# Altium schematic symbol library pyptec-Schlib_jp.SchLib: 316 symbols (part 3 of 7)
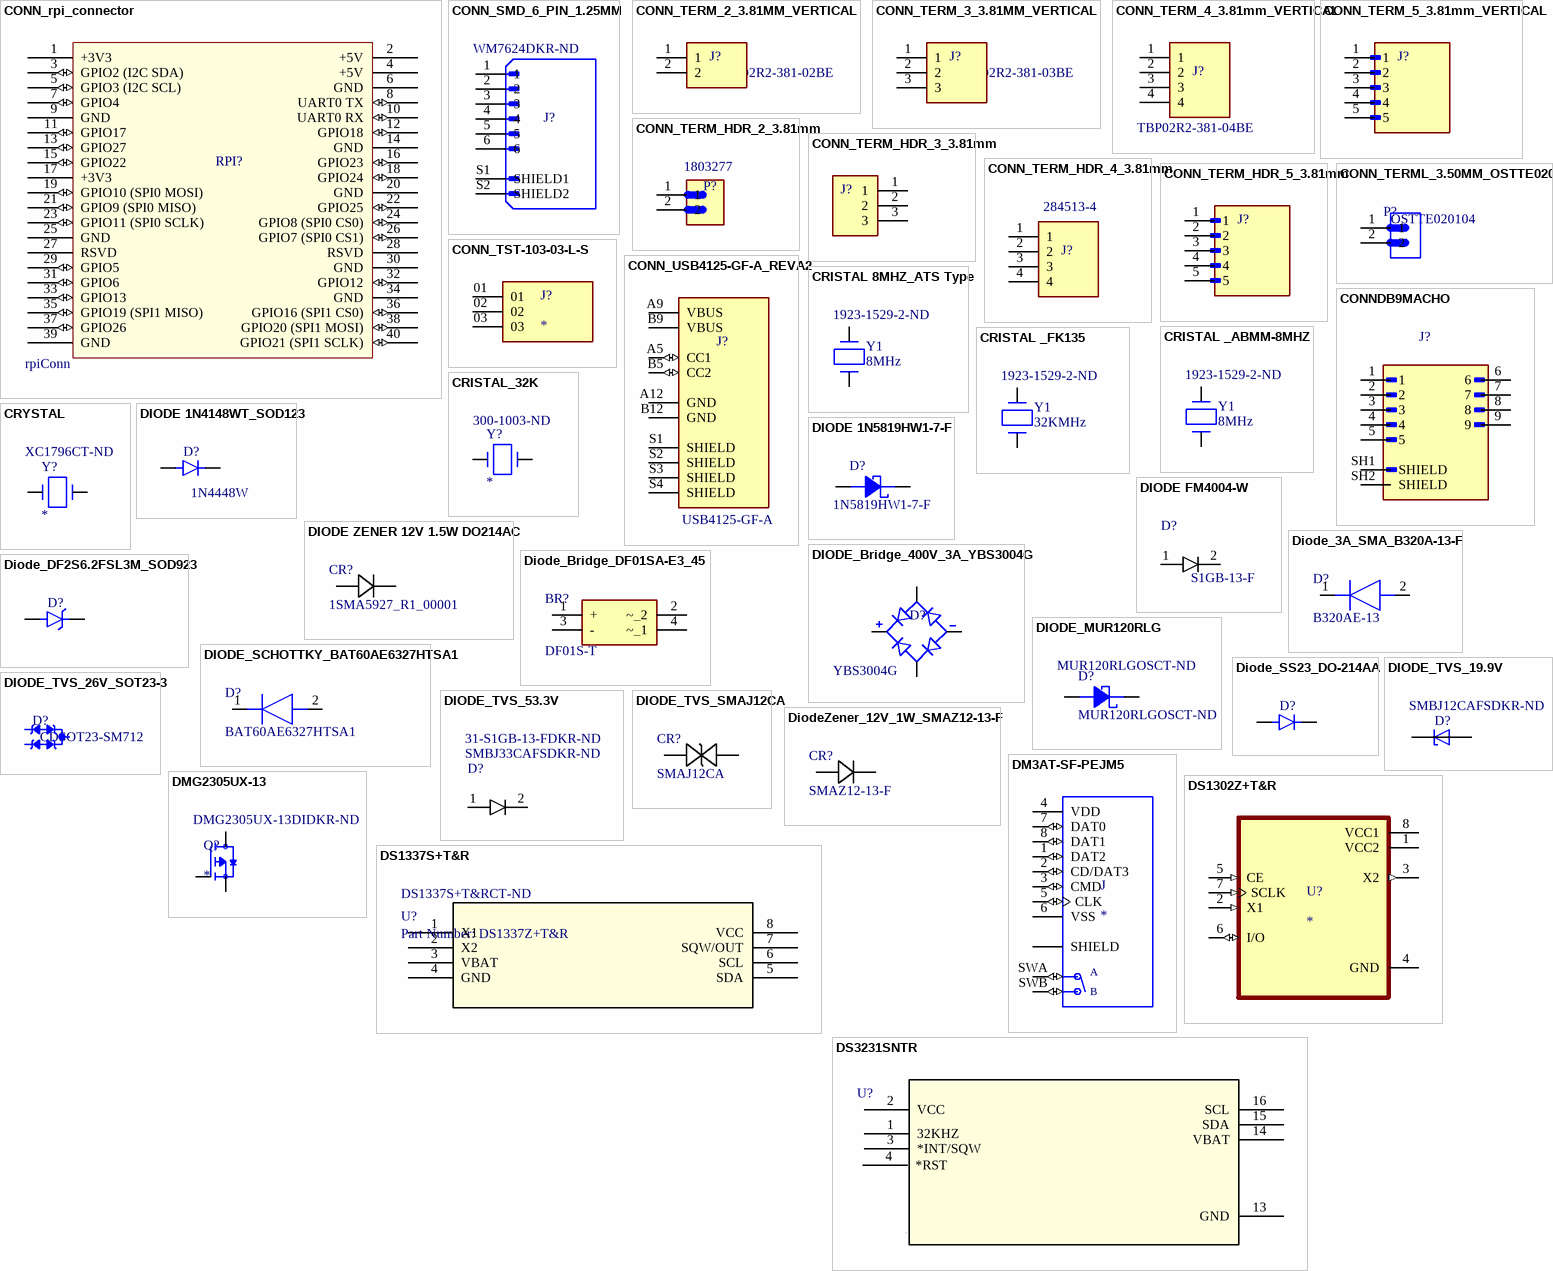
[diagram p12: symbols CONN_rpi_connector to DS3231SNTR]

## DIODE_TVS_53.3V
designator D?, comment Supplier Part Number 2: 31-S1GB-13-FDKR-ND  (hidden comment: SMBJ33CAFSDKR-ND)
53.3V Abrazadera 11.3A Ipp TVS - Diodos Montaje en superficie DO-214AA (SMB); Manufacturer: ON Semiconductor / Fairchild; Digi_Key_Part_Number: SMBJ33CAFSCT-ND; MF: ON Semiconductor; MP: 1N4007; Forward Voltage: 1.1V; Polarity: Standard; Peak Non-Repetitive Surge Current: 30A; Element Configuration: Single; Voltage Rating (DC): 1kV; Current Rating: 1A; Capacitance: 15pF; Peak Reverse Current: 5uA; Power Dissipation: 3W; Operating Supply Voltage: 33V; Breakdown Voltage: 36.7V; Number of Channels: 1; Peak Pulse Power: 600W; Price: None; Package: DO-41 Good-Ark; Availability: Unavailable; SnapEDA_Link: https://www.snapeda.com/parts/1N4007/ON%20Semiconductor/view-part/?ref=snap; Value: *; Manufacturer Part Number: 1N4007; Mount: Through Hole; Number of Pins: 2; Weight: 0.245g; Contact Plating: Tin,Matte; Min Operating Temperature: -65°C; Max Operating Temperature: 175°C; Packaging: Tape and Reel; Output Current: 1A; Max Surge Current: 30A; Forward Current: 1A; Max Repetitive Reverse Voltage (Vrrm): 1kV; Max Forward Surge Current (Ifsm): 30A; Package Quantity: 1000; Reverse Voltage: 1kV; Average Rectified Current: 1A; Max Reverse Voltage (DC): 1kV; Diameter: 2.72mm; Length: 5.2mm; Height: 5.2mm; Width: 2.72mm; Radiation Hardening: No; REACH SVHC: No SVHC; Lead Free: Lead Free; Supplier 1: Digi-Key; Stock 1: 77516; Pricing 1: 1=0.4, 10=0.344, 25=0.3208, 100=0.2384, 250=0.22648, 500=0.18614, 1000=0.15129 (USD); Clamping Voltage: 53.3V; Power Rating: 600W; Supplier 2: Digi-Key; ComponentLink1Description: TVS DIODE 33VWM 53.3VC DO214AA; ComponentLink1URL: https://www.digikey.com/es/products/detail/taiwan-semiconductor-corporation/SMBJ33CA/965472?s=N4IgTCBcDaIMoFkBCApAzGgwgQQGJwBEBpAJQFoA5AkAXQF8g; Link: https://www.digikey.com/es/products/detail/taiwan-semiconductor-corporation/SMBJ33CA/965472?s=N4IgTCBcDaIMoFkBCApAzGgwgQQGJwBEBpAJQFoA5AkAXQF8g; Supplier Part Number 1: SMBJ33CAFSDKR-ND
footprint SM/_SMB DIODE
pins: 1, 2

## DIODE_TVS_SMAJ12CA
designator CR?, comment SMAJ12CA
19.9V Clamp 20.1A Ipp Tvs Diode Surface Mount DO-214AC (SMA); Digi_Key_Part_Number: SMAJ12CALFCT-ND; ComponentLink1Description: TVS DIODE 12VWM 19.9VC DO214AC; ComponentLink1URL: https://www.digikey.com/en/products/detail/littelfuse-inc/SMAJ12CA/762271; Link: https://www.digikey.com/en/products/detail/littelfuse-inc/SMAJ12CA/762271; Price: 0,35; LCSC Part: C78399; Mouser Part: 576-SMAJ12CA; Price JLCPCB: 0,04; Value: SMAJ12CA
footprint SMASeries_LTF-L
pins: 1, 2

## DiodeZener_12V_1W_SMAZ12-13-F
designator CR?, comment SMAZ12-13-F
Diodo - Zener 12 V 1 W ±5% Montaje en superficie SMA; Digi_Key_Part_Number: SMAZ12-FDICT-ND; ComponentLink1Description: DIODE ZENER 12V 1W SMA; ComponentLink1URL: https://www.digikey.com/es/products/detail/diodes-incorporated/SMAZ12-13-F/725035; Link: https://www.digikey.com/es/products/detail/diodes-incorporated/SMAZ12-13-F/725035; Price: 0,26; LCSC Part: C110523; Price JLCPCB: 0,10; Mouser Part: 621-SMAZ12-F; Value: SMAZ12-13-F
footprint SMA_DIO-M
pins: 1, 2

## DM3AT-SF-PEJM5
designator J
10ï¼ˆ8 + 2ï¼‰ä½ç½®å¡è¿žæŽ¥å™¨å®‰å…¨æ•°å­—-microSDâ„¢è¡¨é¢å®‰è£…ï¼Œç›´è§’é‡‘; MF: Hirose; MP: DM3AT-SF-PEJM5; Price: None; SnapEDA_Link: https://www.snapeda.com/parts/DM3AT-SF-PEJM5/Hirose%20Electric%20Co%20Ltd/view-part/1223877/?ref=snap; Availability: Unavailable; Package: None; Value: *
footprint HRS_DM3AT-SF-PEJM5
pins: 1 DAT2 (io), 2 CD/DAT3 (io), 3 CMD (io), 4 VDD (power), 5 CLK (io), 6 VSS (power), 7 DAT0 (io), 8 DAT1 (io), P1 SHIELD, P2 SHIELD, P3 SHIELD, P4 SHIELD, SWA A (io), SWB B (io)

## DMG2305UX-13
designator Q?  Supplier Part Number 1: DMG2305UX-13DIDKR-ND
P-Channel 20V 4.2A _Ta_ 1.4W _Ta_ Surface Mount SOT-23; MP: DMG2305UX-13; MF: Diodes Inc.; Package: SOT-23-3 Diodes Inc.; Price: None; Availability: Unavailable; Value: *; SnapEDA_Link: https://www.snapeda.com/parts/DMG2305UX-13/Diodes%20Inc./view-part/100092/?ref=snap; Supplier 1: Digi-Key
footprint SOT91P240X110-3N
pins: 1 G, 2 S, 3 D

## DS1302Z+T&R
designator U?
Real Time Clock _RTC_ IC Clock/Calendar 31B 3-Wire Serial 8-SOIC _0.154, 3.90mm Width_; MF: Maxim Integrated; Value: DS1302Z+T&R; Package: SOIC-8 Maxim Integrated; Availability: Unavailable; MP: DS1302Z+T&R; SnapEDA_Link: https://www.snapeda.com/parts/DS1302Z/Maxim%20Integrated/view-part/2748183/?ref=snap; Price: None; ComponentLink1Description: DS1302Z+T&R; ComponentLink1URL: https://www.digikey.com/en/products/detail/analog-devices-inc-maxim-integrated/DS1302Z-T-R/1017846; Link: https://www.digikey.com/en/products/detail/analog-devices-inc-maxim-integrated/DS1302Z-T-R/1017846; Digi-Key_Part_Number: DS1302Z+CT-ND
footprint SOIC127P600X175-8N
pins: 1 VCC2 (power), 2 X1 (in), 3 X2 (out), 4 GND (power), 5 CE (in), 6 I/O (io), 7 SCLK (in), 8 VCC1 (power)

## DS1337S+T&R
designator U?, comment Part Number: DS1337Z+T&R  Supplier Part Number 1: DS1337S+T&RCT-ND
Relojes de tiempo real (RTC) IC Reloj/calendario - I²C, 2 conductores en serie 8-SOIC (ancho 0.154", 3.90mm; Manufacturer_Part_Number: DS1307Z+T&R; Manufacturer: Maxim Dallas; Vendor: Maxim Integrated Products; Built_By: EMA_UL_Team; Max Supply Voltage: 5.5V; Min Supply Voltage: 4.5V; Memory Size: 56B; Time Format: HH:MM:SS; Copyright: Copyright (C) 2018 Accelerated Designs. All rights reserved; RefDes: RefDes; Type: DEV; Value: Value; Manufacturer Part Number: DS1307Z+T&R; Mount: Surface Mount; Case/Package: SOIC; Number of Pins: 8; Min Operating Temperature: 0°C; Max Operating Temperature: 70°C; Packaging: Tape and Reel; Length: 5mm; Height: 1.5mm; Width: 4mm; Lead Free: Lead Free; Supplier 1: Digi-Key
footprint 21-0041B_8-M
pins: 1 X1, 2 X2, 3 VBAT (power), 4 GND (power), 5 SDA, 6 SCL, 7 SQW/OUT, 8 VCC (power)

## DS3231SNTR
designator U?, comment DS3231SN#T&R  (value not drawn)
Real Time Clock (RTC) IC Clock/Calendar I2C, 2-Wire Serial 16-SOIC (0.295", 7.50mm Width); Digi_Key_Part_Number: DS3231SN#T&RCT-ND; Link: https://www.digikey.com/en/products/detail/analog-devices-inc-maxim-integrated/DS3231SN-T-R/1197577; Value: DS3231SN#T&R; ComponentLink1Description: IC RTC CLK/CALENDAR I2C 16SOIC; ComponentLink1URL: https://www.digikey.com/en/products/detail/analog-devices-inc-maxim-integrated/DS3231SN-T-R/1197577; Price: 12,88; LCSC Part: C9866; Mouser Part: 700-DS3231SN#T&R-; Price JLCPCB: 3,15
footprint 21-0042B_16_MXM-L
pins: 1 32KHZ, 2 VCC (power), 3 *INT/SQW, 4 *RST, 5 NC, 6 NC, 7 NC, 8 NC, 9 NC, 10 NC, 11 NC, 12 NC, 13 GND (power), 14 VBAT (power), 15 SDA, 16 SCL

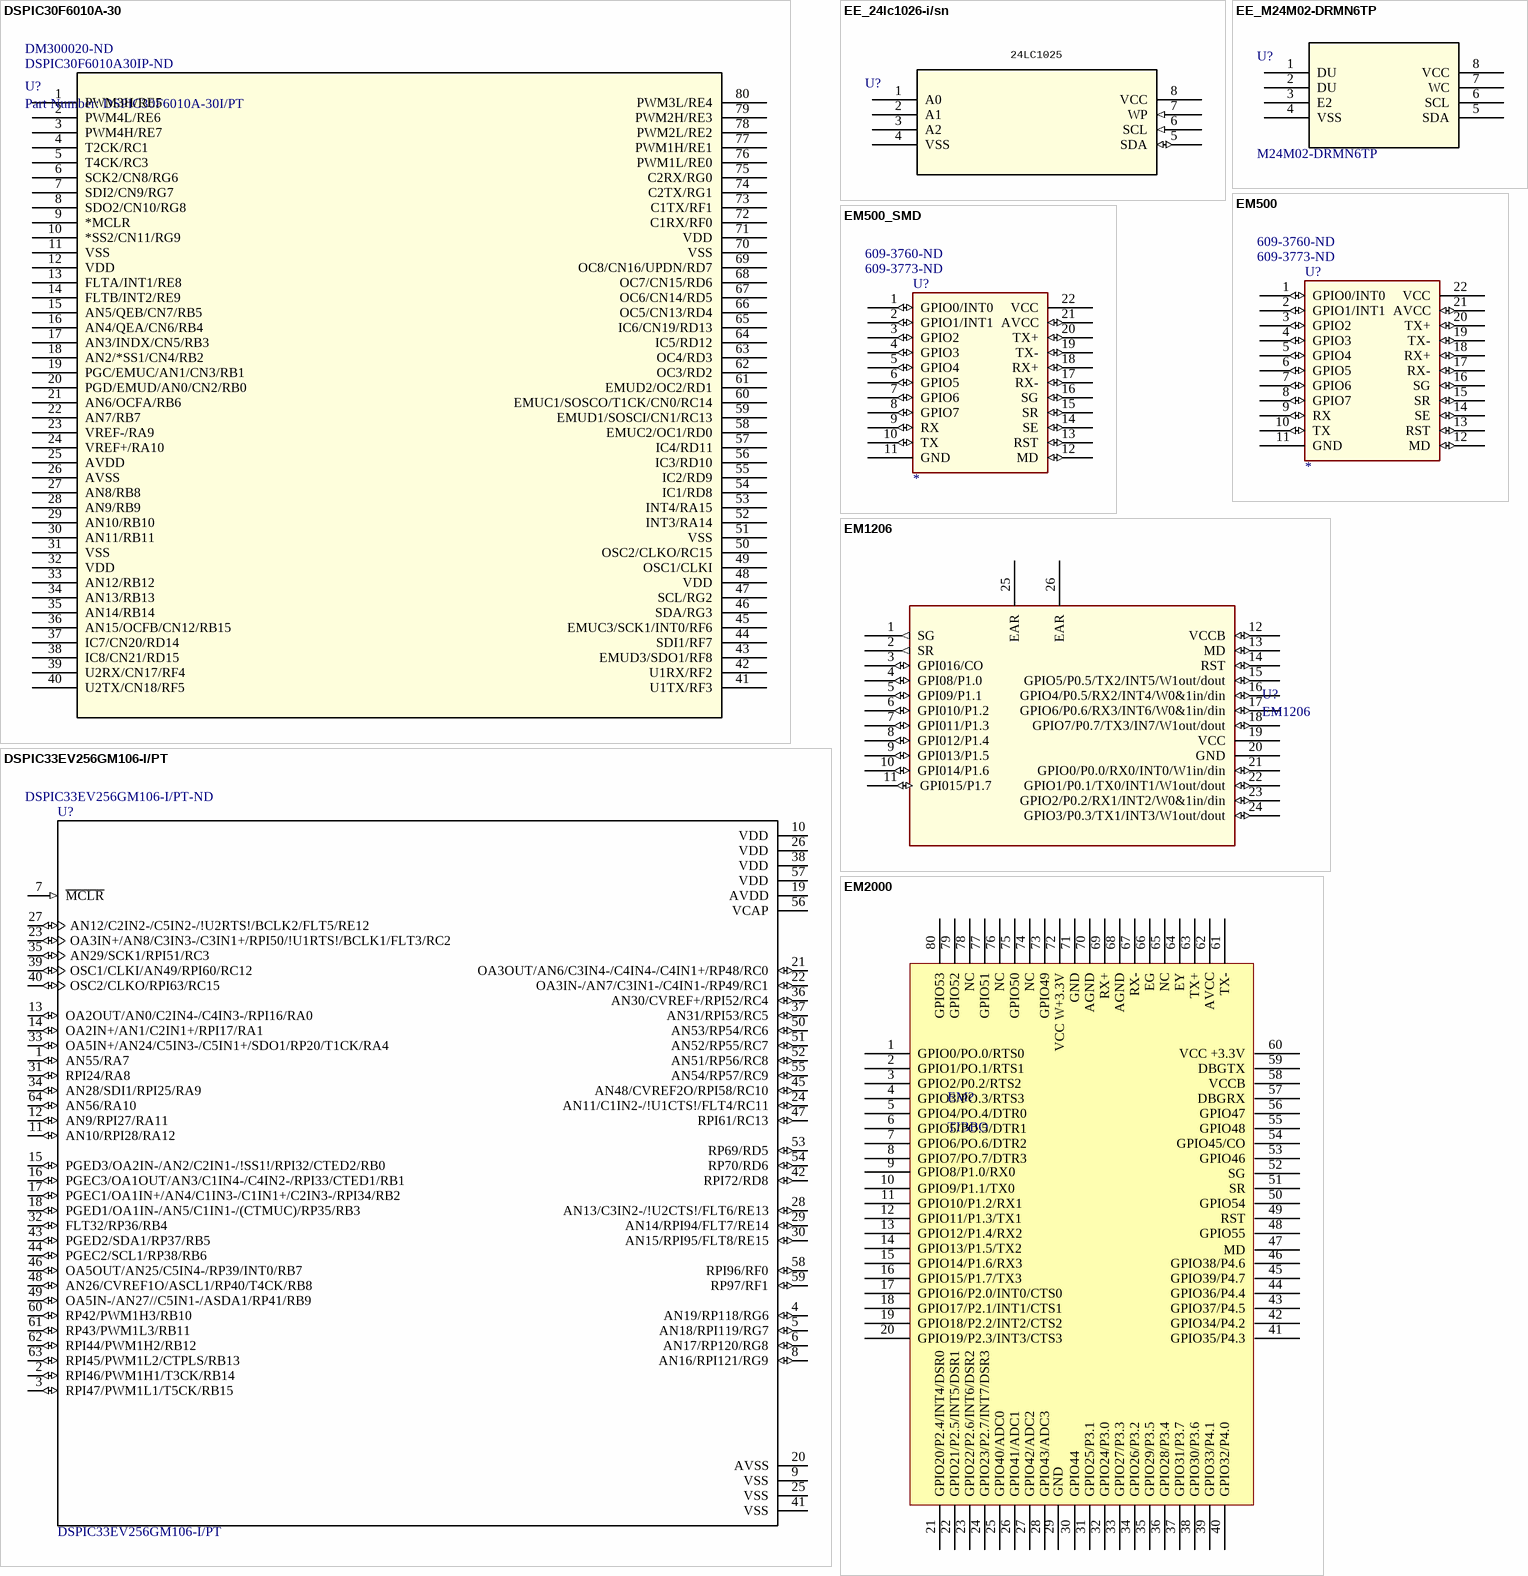
[diagram p3: symbols DSPIC30F6010A-30 to EM2000]

## DSPIC30F6010A-30
designator U?, comment Part Number: DSPIC30F6010A-30I/PT  Supplier Part Number 1: DSPIC30F6010A30IP-ND  Supplier Part Number 2: DM300020-ND
Microcontrolador IC dsPIC dsPIC™ 30F 16 bits 30 MIPS Memoria flash 144KB (48K x 24) 80-TQFP (12x12); Vendor: Microchip; Built_By: EMA_Jessica; Interface: I2C,SPI,CAN,UART,USART; Data Bus Width: 16b; Number of Bits: 16; RAM Size: 8KB; Number of I/Os: 68; Number of Timers/Counters: 5; Frequency: 30MHz; Max Supply Voltage: 5.5V; Min Supply Voltage: 4.5V; Number of I2C Channels: 1; Number of SPI Channels: 2; Number of PWM Channels: 8; Oscillator Type: Internal; Watchdog Timer: Yes; Nominal Supply Current: 84mA; Peripherals: PWM,I2C,Brown-out Detect/Reset,POR,WDT,LVD; Operating Supply Voltage: 9V; Manufacturer_Part_Number: DSPIC30F6010A-30I/PT; Copyright: Copyright (C) 2018 Accelerated Designs. All rights reserved; RefDes: RefDes; Type: DEV; Value: Value; Supplier 1: Digi-Key; Manufacturer: Microchip; Manufacturer Part Number: DSPIC30F6010A-30I/PT; Stock 1: 1454; Pricing 1: 1=10.19, 25=9.26 (USD); Mount: Surface Mount; Case/Package: TQFP; Number of Pins: 80; Min Operating Temperature: -40°C; Max Operating Temperature: 85°C; Package Quantity: 119; Core Architecture: dsPIC; Packaging: Tray; Number of ADC Channels: 16; Number of UART Channels: 2; Density: 144KB; Number of Programmable I/O: 68; Termination: SMD/SMT; Memory Type: FLASH; Number of A/D Converters: 1; Max Frequency: 30MHz; Address Bus Width: 16b; Memory Size: 144KB; Length: 0.393inch; Height: 0.041inch; Width: 0.394inch; Radiation Hardening: No; REACH SVHC: No SVHC; Lead Free: Lead Free; ComponentLink1URL: http://ww1.microchip.com/downloads/jp/DeviceDoc/jp025856.pdf?src-supplier=Avnet; ComponentLink1Description: http://ww1.microchip.com/downloads/jp/DeviceDoc/jp025856.pdf?src-supplier=Avnet; ComponentLink2URL: http://www.farnell.com/datasheets/1669383.pdf?src-supplier=Element14; ComponentLink2Description: http://www.farnell.com/datasheets/1669383.pdf?src-supplier=Element14; ComponentLink3URL: https://www.verical.com/server-webapp/html/getDatasheet?partID=426339&src-supplier=Verical; ComponentLink3Description: https://www.verical.com/server-webapp/html/getDatasheet?partID=426339&src-supplier=Verical; ComponentLink4URL: http://www.microchip.com/mymicrochip/filehandler.aspx?ddocname=en540967&src-supplier=Digi-Key; ComponentLink4Description: http://www.microchip.com/mymicrochip/filehandler.aspx?ddocname=en540967&src-supplier=Digi-Key; ComponentLink5URL: https://www.distrelec.biz/Web/Downloads/_t/ds/dsPIC30F60XX_eng_tds.pdf?mime=application%2Fpdf&src-supplier=Distrelec; ComponentLink5Description: https://www.distrelec.biz/Web/Downloads/_t/ds/dsPIC30F60XX_eng_tds.pdf?mime=application%2Fpdf&src-supplier=Distrelec; ComponentLink6URL: http://www.produktinfo.conrad.com/datenblaetter/650000-674999/651291-da-01-en-IC_DSC_DSPIC30F6010A_30I_PT_TQFP_80_MCP.pdf?src-supplier=Conrad; ComponentLink6Description: http://www.produktinfo.conrad.com/datenblaetter/650000-674999/651291-da-01-en-IC_DSC_DSPIC30F6010A_30I_PT_TQFP_80_MCP.pdf?src-supplier=Conrad; ComponentLink7URL: http://datasheet.iiic.cc/microchip_technology/DSPIC30F6010A-30I_PT.pdf?src-supplier=IIIC; ComponentLink7Description: http://datasheet.iiic.cc/microchip_technology/DSPIC30F6010A-30I_PT.pdf?src-supplier=IIIC; Supplier 2: Digi-Key; Stock 2: 0; Evaluation Kit: Yes; ComponentLink8URL: http://www.farnell.com/datasheets/64080.pdf?src-supplier=Element14; ComponentLink8Description: http://www.farnell.com/datasheets/64080.pdf?src-supplier=Element14; ComponentLink9URL: http://ww1.microchip.com/downloads/en/DeviceDoc/01033B%2041.pdf?src-supplier=Future+Electronics; ComponentLink9Description: http://ww1.microchip.com/downloads/en/DeviceDoc/01033B%2041.pdf?src-supplier=Future+Electronics; ComponentLink10URL: http://components.arrow.com/part/dataview/0323_00271934?src-supplier=Arrow+Europe; ComponentLink10Description: http://components.arrow.com/part/dataview/0323_00271934?src-supplier=Arrow+Europe; ComponentLink11URL: http://ww1.microchip.com/downloads/en/DeviceDoc/70098A.pdf?src-supplier=Digi-Key; ComponentLink11Description: http://ww1.microchip.com/downloads/en/DeviceDoc/70098A.pdf?src-supplier=Digi-Key
footprint TQFP80_12x12MC-M
pins: 1 PWM3H/RE5, 2 PWM4L/RE6, 3 PWM4H/RE7, 4 T2CK/RC1, 5 T4CK/RC3, 6 SCK2/CN8/RG6, 7 SDI2/CN9/RG7, 8 SDO2/CN10/RG8, 9 *MCLR, 10 *SS2/CN11/RG9, 11 VSS, 12 VDD, 13 FLTA/INT1/RE8, 14 FLTB/INT2/RE9, 15 AN5/QEB/CN7/RB5, 16 AN4/QEA/CN6/RB4, 17 AN3/INDX/CN5/RB3, 18 AN2/*SS1/CN4/RB2, 19 PGC/EMUC/AN1/CN3/RB1, 20 PGD/EMUD/AN0/CN2/RB0, 21 AN6/OCFA/RB6, 22 AN7/RB7, 23 VREF-/RA9, 24 VREF+/RA10, 25 AVDD, 26 AVSS, 27 AN8/RB8, 28 AN9/RB9, 29 AN10/RB10, 30 AN11/RB11, 31 VSS, 32 VDD, 33 AN12/RB12, 34 AN13/RB13, 35 AN14/RB14, 36 AN15/OCFB/CN12/RB15, 37 IC7/CN20/RD14, 38 IC8/CN21/RD15, 39 U2RX/CN17/RF4, 40 U2TX/CN18/RF5, 41 U1TX/RF3, 42 U1RX/RF2, 43 EMUD3/SDO1/RF8, 44 SDI1/RF7, 45 EMUC3/SCK1/INT0/RF6, 46 SDA/RG3, 47 SCL/RG2, 48 VDD, 49 OSC1/CLKI, 50 OSC2/CLKO/RC15, 51 VSS, 52 INT3/RA14, 53 INT4/RA15, 54 IC1/RD8, 55 IC2/RD9, 56 IC3/RD10, 57 IC4/RD11, 58 EMUC2/OC1/RD0, 59 EMUD1/SOSCI/CN1/RC13, 60 EMUC1/SOSCO/T1CK/CN0/RC14, 61 EMUD2/OC2/RD1, 62 OC3/RD2, 63 OC4/RD3, 64 IC5/RD12, 65 IC6/CN19/RD13, 66 OC5/CN13/RD4, 67 OC6/CN14/RD5, 68 OC7/CN15/RD6, 69 OC8/CN16/UPDN/RD7, 70 VSS, 71 VDD, 72 C1RX/RF0, 73 C1TX/RF1, 74 C2TX/RG1, 75 C2RX/RG0, 76 PWM1L/RE0, 77 PWM1H/RE1, 78 PWM2L/RE2, 79 PWM2H/RE3, 80 PWM3L/RE4

## DSPIC33EV256GM106-I/PT
designator U?  Supplier Part Number 1: DSPIC33EV256GM106-I/PT-ND
dsPIC33EV Series 16 kB RAM 256 kB Flash 16-Bit Digital Signal Controller-TQFP-64; MF: Microchip; RAM Size: 16KB; Min Supply Voltage: 4.5V; Max Supply Voltage: 5.5V; Density: 256KB; Number of PWM Channels: 8; Interface: I2C,SPI,CAN,IrDA,UART,USART,LIN; Number of I/Os: 53; Oscillator Type: Internal; Number of I2C Channels: 1; Number of SPI Channels: 2; Number of Timers/Counters: 9; Data Bus Width: 16b; Number of ADC Channels: 36; Operating Supply Voltage: 5V; Max Frequency: 7.37MHz; Peripherals: Brown-out Detect/Reset,POR,PWM,WDT,DMA; Core Architecture: dsPIC; MP: DSPIC33EV256GM106-I/PT; Digi-Key_Part_Number: DSPIC33EV256GM106-I/PT-ND; Package: TQFP-64 Microchip; SnapEDA_Link: https://www.snapeda.com/parts/DSPIC33EV256GM106-I/PT/Microchip/view-part/225841/?ref=snap; Digi-Key_Purchase_URL: https://www.digikey.com/product-detail/en/microchip-technology/DSPIC33EV256GM106-I-PT/DSPIC33EV256GM106-I-PT-ND/5032091?utm_source=snapeda&utm_medium=aggregator&utm_campaign=symbol; Value: *; Supplier 1: Digi-Key; Manufacturer: Microchip; Manufacturer Part Number: DSPIC33EV256GM106-I/PT; Stock 1: 586; Pricing 1: 1=4.14, 25=3.8 (USD); Mount: Surface Mount; Case/Package: TQFP; Number of Pins: 64; Weight: 0.01272oz; Min Operating Temperature: -40°C; Max Operating Temperature: 85°C; Packaging: Tray; Memory Type: FLASH; Memory Size: 256KB; Package Quantity: 160; Number of UART Channels: 2; Length: 10mm; Height: 1.05mm; Width: 10mm; REACH SVHC: No SVHC; Lead Free: Lead Free; ComponentLink1URL: http://www.farnell.com/datasheets/1866826.pdf?src-supplier=Element14; ComponentLink1Description: http://www.farnell.com/datasheets/1866826.pdf?src-supplier=Element14
footprint *QFP50P1200X1200X120-64N
pins: 1 AN55/RA7 (io), 2 RPI46/PWM1H1/T3CK/RB14 (io), 3 RPI47/PWM1L1/T5CK/RB15 (io), 4 AN19/RP118/RG6 (io), 5 AN18/RPI119/RG7 (io), 6 AN17/RP120/RG8 (io), 7 ~{MCLR} (in), 8 AN16/RPI121/RG9 (io), 9 VSS (power), 10 VDD (power), 11 AN10/RPI28/RA12 (io), 12 AN9/RPI27/RA11 (io), 13 OA2OUT/AN0/C2IN4-/C4IN3-/RPI16/RA0 (io), 14 OA2IN+/AN1/C2IN1+/RPI17/RA1 (io), 15 PGED3/OA2IN-/AN2/C2IN1-/!SS1!/RPI32/CTED2/RB0 (io), 16 PGEC3/OA1OUT/AN3/C1IN4-/C4IN2-/RPI33/CTED1/RB1 (io), 17 PGEC1/OA1IN+/AN4/C1IN3-/C1IN1+/C2IN3-/RPI34/RB2 (io), 18 PGED1/OA1IN-/AN5/C1IN1-/(CTMUC)/RP35/RB3 (io), 19 AVDD (power), 20 AVSS (power), 21 OA3OUT/AN6/C3IN4-/C4IN4-/C4IN1+/RP48/RC0 (io), 22 OA3IN-/AN7/C3IN1-/C4IN1-/RP49/RC1 (io), 23 OA3IN+/AN8/C3IN3-/C3IN1+/RPI50/!U1RTS!/BCLK1/FLT3/RC2 (io), 24 AN11/C1IN2-/!U1CTS!/FLT4/RC11 (io), 25 VSS (power), 26 VDD (power), 27 AN12/C2IN2-/C5IN2-/!U2RTS!/BCLK2/FLT5/RE12 (io), 28 AN13/C3IN2-/!U2CTS!/FLT6/RE13 (io), 29 AN14/RPI94/FLT7/RE14 (io), 30 AN15/RPI95/FLT8/RE15 (io), 31 RPI24/RA8 (io), 32 FLT32/RP36/RB4 (io), 33 OA5IN+/AN24/C5IN3-/C5IN1+/SDO1/RP20/T1CK/RA4 (io), 34 AN28/SDI1/RPI25/RA9 (io), 35 AN29/SCK1/RPI51/RC3 (io), 36 AN30/CVREF+/RPI52/RC4 (io), 37 AN31/RPI53/RC5 (io), 38 VDD (power), 39 OSC1/CLKI/AN49/RPI60/RC12 (io), 40 OSC2/CLKO/RPI63/RC15 (io), 41 VSS (power), 42 RPI72/RD8 (io), 43 PGED2/SDA1/RP37/RB5 (io), 44 PGEC2/SCL1/RP38/RB6 (io), 45 AN48/CVREF2O/RPI58/RC10 (io), 46 OA5OUT/AN25/C5IN4-/RP39/INT0/RB7 (io), 47 RPI61/RC13 (io), 48 AN26/CVREF1O/ASCL1/RP40/T4CK/RB8 (io), 49 OA5IN-/AN27//C5IN1-/ASDA1/RP41/RB9 (io), 50 AN53/RP54/RC6 (io), 51 AN52/RP55/RC7 (io), 52 AN51/RP56/RC8 (io), 53 RP69/RD5 (io), 54 RP70/RD6 (io), 55 AN54/RP57/RC9 (io), 56 VCAP (power), 57 VDD (power), 58 RPI96/RF0 (io), 59 RP97/RF1 (io), 60 RP42/PWM1H3/RB10 (io), 61 RP43/PWM1L3/RB11 (io), 62 RPI44/PWM1H2/RB12 (io), 63 RPI45/PWM1L2/CTPLS/RB13 (io), 64 AN56/RA10 (io)

## EE_24lc1026-i/sn
designator U?, comment value 24LC1025  (hidden comment: 24LC1026-I/SN-ND)
Memoria IC EEPROM 1Mb (128K x 8) I²C 900ns 8-SOIC; Manufacturer_Part_Number: 24lc1025-i/sn; Vendor: Microchip; Built_By: EMA_UL_Team; Interface: I2C,Serial; Frequency: 400kHz; Max Supply Voltage: 5.5V; Min Supply Voltage: 2.5V; Nominal Supply Current: 5mA; Operating Supply Voltage: 5V; Copyright: Copyright (C) 2018 Accelerated Designs. All rights reserved; RefDes: RefDes; Type: DEV; Supplier 1: Digi-Key; Manufacturer: Microchip; Manufacturer Part Number: 24LC1025-I/SN; Stock 1: 1127; Pricing 1: 1=2.86, 25=2.76 (USD); Mount: Surface Mount; Case/Package: SOIC; Number of Pins: 8; Min Operating Temperature: -40°C; Max Operating Temperature: 85°C; Access Time: 900ns; Packaging: Rail/Tube; Package Quantity: 100; Density: 1Mb; Memory Type: EEPROM; Memory Size: 1Mb; Max Frequency: 400kHz; Length: 4.9mm; Height: 1.75mm; Width: 6mm; Radiation Hardening: No; Lead Free: Lead Free; Supplier 2: Digi-Key; Supplier Part Number 1: 24LC1025-I/SN-ND; Supplier: DIGI_KEY; Link: https://www.digikey.com/es/products/detail/microchip-technology/24LC1026-I-SN/2601405; Digi_Key_Part_Number: 24LC1026-I/SN-ND; ComponentLink3Description: IC EEPROM 1MBIT I2C 400KHZ 8SOIC; ComponentLink3URL: https://www.digikey.com/es/products/detail/microchip-technology/24LC1026-I-SN/2601405?s=N4IgTCBcDa4CwBkDCBGADGAbAWgJIHoBlAORAF0BfIA; Supplier Part Number 2: 24LC1026-I/SN-ND
footprint SOIC8-N_MC-M
pins: 1 A0, 2 A1, 3 A2, 4 VSS (power), 5 SDA (io), 6 SCL (in), 7 WP (in), 8 VCC (power)

## EE_M24M02-DRMN6TP
designator U?, comment value M24M02-DRMN6TP  (hidden comment: 497-11600-1-ND)
EEPROM Memory IC 2Mbit I2C 1 MHz 450 ns 8-SOIC; Mfr_Name: STMicroelectronics; RefDes: RefDes; Type: Type; ComponentLink1Description: M24M02-DRMN6TP; ComponentLink1URL: https://www.digikey.com/en/products/detail/stmicroelectronics/m24m02-drmn6tp/2747119?_gl=1*1ikbwmj*_up*MQ..&gclid=CjwKCAjw3NyxBhBmEiwAyofDYQcviFC-nCdu0ghrrQytMbnCH6T0xheGzme4N5Ux46NXsjGukPHY6xoCgK4QAvD_BwE; Link: https://www.digikey.com/en/products/detail/stmicroelectronics/m24m02-drmn6tp/2747119?_gl=1*1ikbwmj*_up*MQ..&gclid=CjwKCAjw3NyxBhBmEiwAyofDYQcviFC-nCdu0ghrrQytMbnCH6T0xheGzme4N5Ux46NXsjGukPHY6xoCgK4QAvD_BwE; Digi_Key_Part_Number: 497-11600-1-ND
footprint SO_RMN6TP_STM-M
pins: 1 DU, 2 DU, 3 E2, 4 VSS (power), 5 SDA, 6 SCL, 7 WC, 8 VCC (power)

## EM500
designator U?  Supplier Part Number 1: 609-3773-ND  Supplier Part Number 2: 609-3760-ND
Manufacturer: Amphenol FCI; Manufacturer Part Number: 20021321-00022T4LF; Contact Resistance: 30mR; Connector Type: Receptacle,Socket; Number of Positions: 22; Max Voltage Rating (AC): 125V; Gender: Female; Pitch: 1.27mm; Row Spacing: 0.05inch; Current Rating: 1A; Supplier 1: Digi-Key; Stock 1: 2091; Pricing 1: 1=1.87, 10=1.695, 100=1.4532, 500=1.211, 1000=1.038, 5000=0.92036, 10000=0.8996 (USD); Mount: Surface Mount; Contact Plating: Gold; Contact Material: Copper Alloy; Color: Black; Housing Color: Black; Housing Material: Thermoplastic; Min Operating Temperature: -40°C; Max Operating Temperature: 85°C; Number of Rows: 2; Packaging: Rail/Tube; Package Quantity: 41; Termination: Solder; Number of Contacts: 22; Orientation: Straight; Length: 14.43mm; Depth: 3mm; ComponentLink1URL: https://media.digikey.com/pdf/Data%20Sheets/FCI%20PDFs/Minitek%20127_Catalog.pdf?src-supplier=Digi-Key; ComponentLink1Description: https://media.digikey.com/pdf/Data%20Sheets/FCI%20PDFs/Minitek%20127_Catalog.pdf?src-supplier=Digi-Key; ComponentLink2URL: http://portal.fciconnect.com/Comergent/fci/drawing/20021321.pdf?src-supplier=Avnet; ComponentLink2Description: http://portal.fciconnect.com/Comergent/fci/drawing/20021321.pdf?src-supplier=Avnet; ComponentLink3URL: http://portal.fciconnect.com/Comergent//fci/drawing/20021321.pdf?src-supplier=Mouser; ComponentLink3Description: http://portal.fciconnect.com/Comergent//fci/drawing/20021321.pdf?src-supplier=Mouser; Supplier 2: Digi-Key; Stock 2: 1587; Pricing 2: 1=1.8, 10=1.638, 100=1.4039, 500=1.16988, 1000=1.00275, 5000=0.88911, 10000=0.86905 (USD); Voltage Rating: 125V; ComponentLink4URL: http://portal.fciconnect.com/Comergent//fci/drawing/20021311.pdf?src-supplier=Mouser; ComponentLink4Description: http://portal.fciconnect.com/Comergent//fci/drawing/20021311.pdf?src-supplier=Mouser; ComponentLink5URL: http://portal.fciconnect.com/Comergent//fci/drawing/20021311.pdf?src-supplier=Digi-Key; ComponentLink5Description: http://portal.fciconnect.com/Comergent//fci/drawing/20021311.pdf?src-supplier=Digi-Key; ComponentLink6URL: http://portal.fciconnect.com/Comergent/fci/drawing/20021311.pdf?src-supplier=Avnet; ComponentLink6Description: http://portal.fciconnect.com/Comergent/fci/drawing/20021311.pdf?src-supplier=Avnet
footprint EM500
pins: 1 GPIO0/INT0 (io), 2 GPIO1/INT1 (io), 3 GPIO2 (io), 4 GPIO3 (io), 5 GPIO4 (io), 6 GPIO5 (io), 7 GPIO6 (io), 8 GPIO7 (io), 9 RX (io), 10 TX (io), 11 GND (power), 12 MD (io), 13 RST (io), 14 SE (io), 15 SR (io), 16 SG (io), 17 RX- (io), 18 RX+ (io), 19 TX- (io), 20 TX+ (io), 21 AVCC (io), 22 VCC (power)

## EM500_SMD
designator U?  Supplier Part Number 1: 609-3773-ND  Supplier Part Number 2: 609-3760-ND
Manufacturer: Amphenol FCI; Manufacturer Part Number: 20021321-00022T4LF; Contact Resistance: 30mR; Connector Type: Receptacle,Socket; Number of Positions: 22; Max Voltage Rating (AC): 125V; Gender: Female; Pitch: 1.27mm; Row Spacing: 0.05inch; Current Rating: 1A; Supplier 1: Digi-Key; Stock 1: 2091; Pricing 1: 1=1.87, 10=1.695, 100=1.4532, 500=1.211, 1000=1.038, 5000=0.92036, 10000=0.8996 (USD); Mount: Surface Mount; Contact Plating: Gold; Contact Material: Copper Alloy; Color: Black; Housing Color: Black; Housing Material: Thermoplastic; Min Operating Temperature: -40°C; Max Operating Temperature: 85°C; Number of Rows: 2; Packaging: Rail/Tube; Package Quantity: 41; Termination: Solder; Number of Contacts: 22; Orientation: Straight; Length: 14.43mm; Depth: 3mm; ComponentLink1URL: https://media.digikey.com/pdf/Data%20Sheets/FCI%20PDFs/Minitek%20127_Catalog.pdf?src-supplier=Digi-Key; ComponentLink1Description: https://media.digikey.com/pdf/Data%20Sheets/FCI%20PDFs/Minitek%20127_Catalog.pdf?src-supplier=Digi-Key; ComponentLink2URL: http://portal.fciconnect.com/Comergent/fci/drawing/20021321.pdf?src-supplier=Avnet; ComponentLink2Description: http://portal.fciconnect.com/Comergent/fci/drawing/20021321.pdf?src-supplier=Avnet; ComponentLink3URL: http://portal.fciconnect.com/Comergent//fci/drawing/20021321.pdf?src-supplier=Mouser; ComponentLink3Description: http://portal.fciconnect.com/Comergent//fci/drawing/20021321.pdf?src-supplier=Mouser; Supplier 2: Digi-Key; Stock 2: 1587; Pricing 2: 1=1.8, 10=1.638, 100=1.4039, 500=1.16988, 1000=1.00275, 5000=0.88911, 10000=0.86905 (USD); Voltage Rating: 125V; ComponentLink4URL: http://portal.fciconnect.com/Comergent//fci/drawing/20021311.pdf?src-supplier=Mouser; ComponentLink4Description: http://portal.fciconnect.com/Comergent//fci/drawing/20021311.pdf?src-supplier=Mouser; ComponentLink5URL: http://portal.fciconnect.com/Comergent//fci/drawing/20021311.pdf?src-supplier=Digi-Key; ComponentLink5Description: http://portal.fciconnect.com/Comergent//fci/drawing/20021311.pdf?src-supplier=Digi-Key; ComponentLink6URL: http://portal.fciconnect.com/Comergent/fci/drawing/20021311.pdf?src-supplier=Avnet; ComponentLink6Description: http://portal.fciconnect.com/Comergent/fci/drawing/20021311.pdf?src-supplier=Avnet
footprint SAMTEC_RSM-TIBO-SMD
pins: 1 GPIO0/INT0 (io), 2 GPIO1/INT1 (io), 3 GPIO2 (io), 4 GPIO3 (io), 5 GPIO4 (io), 6 GPIO5 (io), 7 GPIO6 (io), 8 GPIO7 (io), 9 RX (io), 10 TX (io), 11 GND (power), 12 MD (io), 13 RST (io), 14 SE (io), 15 SR (io), 16 SG (io), 17 RX- (io), 18 RX+ (io), 19 TX- (io), 20 TX+ (io), 21 AVCC (io), 22 VCC (power)

## EM1206
designator U?
El EM1206 es un módulo IoT compacto Tibbo BASIC/C programable con Ethernet; Digi_Key_Part_Number: NA; Link: https://tibbo.com/store/modules/em1206.html; ComponentLink1Description: EM1206; ComponentLink1URL: https://tibbo.com/store/modules/em1206.html
footprint EM1206
pins: 1 SG (out), 2 SR (out), 3 GPI016/CO (io), 4 GPI08/P1.0 (io), 5 GPI09/P1.1 (io), 6 GPI010/P1.2 (io), 7 GPI011/P1.3 (io), 8 GPI012/P1.4 (io), 9 GPI013/P1.5 (io), 10 GPI014/P1.6 (io), 11 GPI015/P1.7 (io), 12 VCCB (io), 13 MD (io), 14 RST (io), 15 GPIO5/P0.5/TX2/INT5/W1out/dout (io), 16 GPIO4/P0.5/RX2/INT4/W0&1in/din (io), 17 GPIO6/P0.6/RX3/INT6/W0&1in/din (io), 18 GPIO7/P0.7/TX3/IN7/W1out/dout (io), 19 VCC (power), 20 GND (power), 21 GPIO0/P0.0/RX0/INT0/W1in/din (io), 22 GPIO1/P0.1/TX0/INT1/W1out/dout (io), 23 GPIO2/P0.2/RX1/INT2/W0&1in/din (io), 24 GPIO3/P0.3/TX1/INT3/W1out/dout (io), 25 EAR, 26 EAR

## EM2000
designator EM?, comment TIBBO
Digi_Key_Part_Number: EM2000; Link: https://tibbo.com/store/modules/em2000.html
footprint EM2000 (TIBBO)
pins: 1 GPIO0/PO.0/RTS0, 2 GPIO1/PO.1/RTS1, 3 GPIO2/P0.2/RTS2, 4 GPIO3/PO.3/RTS3, 5 GPIO4/PO.4/DTR0, 6 GPIO5/PO.5/DTR1, 7 GPIO6/PO.6/DTR2, 8 GPIO7/PO.7/DTR3, 9 GPIO8/P1.0/RX0, 10 GPIO9/P1.1/TX0, 11 GPIO10/P1.2/RX1, 12 GPIO11/P1.3/TX1, 13 GPIO12/P1.4/RX2, 14 GPIO13/P1.5/TX2, 15 GPIO14/P1.6/RX3, 16 GPIO15/P1.7/TX3, 17 GPIO16/P2.0/INT0/CTS0, 18 GPIO17/P2.1/INT1/CTS1, 19 GPIO18/P2.2/INT2/CTS2, 20 GPIO19/P2.3/INT3/CTS3, 21 GPIO20/P2.4/INT4/DSR0, 22 GPIO21/P2.5/INT5/DSR1, 23 GPIO22/P2.6/INT6/DSR2, 24 GPIO23/P2.7/INT7/DSR3, 25 GPIO40/ADC0, 26 GPIO41/ADC1, 27 GPIO42/ADC2, 28 GPIO43/ADC3, 29 GND, 30 GPIO44, 31 GPIO25/P3.1, 32 GPIO24/P3.0, 33 GPIO27/P3.3, 34 GPIO26/P3.2, 35 GPIO29/P3.5, 36 GPIO28/P3.4, 37 GPIO31/P3.7, 38 GPIO30/P3.6, 39 GPIO33/P4.1, 40 GPIO32/P4.0, 41 GPIO35/P4.3, 42 GPIO34/P4.2, 43 GPIO37/P4.5, 44 GPIO36/P4.4, 45 GPIO39/P4.7, 46 GPIO38/P4.6, 47 MD, 48 GPIO55, 49 RST, 50 GPIO54, 51 SR, 52 SG, 53 GPIO46, 54 GPIO45/CO, 55 GPIO48, 56 GPIO47, 57 DBGRX, 58 VCCB, 59 DBGTX, 60 VCC +3.3V, 61 TX-, 62 AVCC, 63 TX+, 64 EY, 65 NC, 66 EG, 67 RX-, 68 AGND, 69 RX+, 70 AGND, 71 GND, 72 VCC W+3.3V, 73 GPIO49, 74 NC, 75 GPIO50, 76 NC, 77 GPIO51, 78 NC, 79 GPIO52, 80 GPIO53

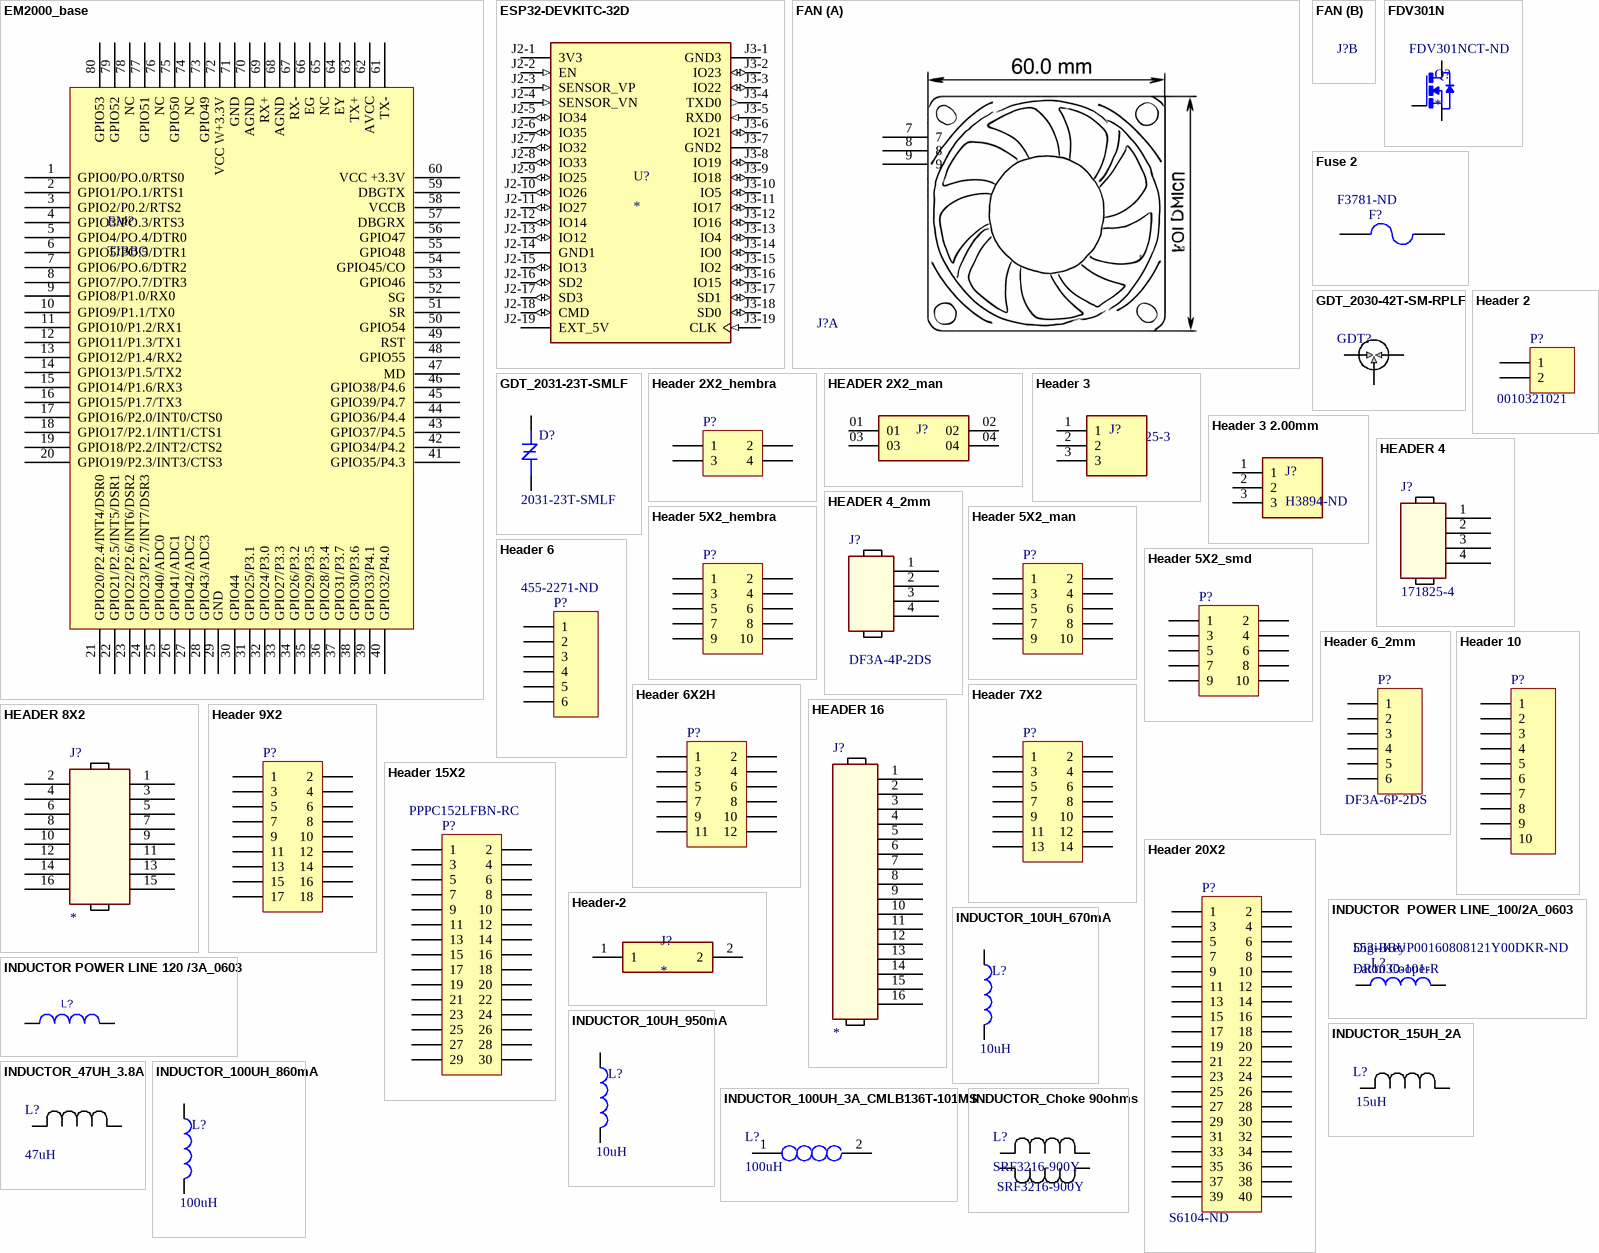
[diagram p4: symbols EM2000_base to INDUCTOR_Choke 90ohms]

## EM2000_base
designator EM?, comment TIBBO
footprint EM2000 - base (TIBBO)
pins: 1 GPIO0/PO.0/RTS0, 2 GPIO1/PO.1/RTS1, 3 GPIO2/P0.2/RTS2, 4 GPIO3/PO.3/RTS3, 5 GPIO4/PO.4/DTR0, 6 GPIO5/PO.5/DTR1, 7 GPIO6/PO.6/DTR2, 8 GPIO7/PO.7/DTR3, 9 GPIO8/P1.0/RX0, 10 GPIO9/P1.1/TX0, 11 GPIO10/P1.2/RX1, 12 GPIO11/P1.3/TX1, 13 GPIO12/P1.4/RX2, 14 GPIO13/P1.5/TX2, 15 GPIO14/P1.6/RX3, 16 GPIO15/P1.7/TX3, 17 GPIO16/P2.0/INT0/CTS0, 18 GPIO17/P2.1/INT1/CTS1, 19 GPIO18/P2.2/INT2/CTS2, 20 GPIO19/P2.3/INT3/CTS3, 21 GPIO20/P2.4/INT4/DSR0, 22 GPIO21/P2.5/INT5/DSR1, 23 GPIO22/P2.6/INT6/DSR2, 24 GPIO23/P2.7/INT7/DSR3, 25 GPIO40/ADC0, 26 GPIO41/ADC1, 27 GPIO42/ADC2, 28 GPIO43/ADC3, 29 GND, 30 GPIO44, 31 GPIO25/P3.1, 32 GPIO24/P3.0, 33 GPIO27/P3.3, 34 GPIO26/P3.2, 35 GPIO29/P3.5, 36 GPIO28/P3.4, 37 GPIO31/P3.7, 38 GPIO30/P3.6, 39 GPIO33/P4.1, 40 GPIO32/P4.0, 41 GPIO35/P4.3, 42 GPIO34/P4.2, 43 GPIO37/P4.5, 44 GPIO36/P4.4, 45 GPIO39/P4.7, 46 GPIO38/P4.6, 47 MD, 48 GPIO55, 49 RST, 50 GPIO54, 51 SR, 52 SG, 53 GPIO46, 54 GPIO45/CO, 55 GPIO48, 56 GPIO47, 57 DBGRX, 58 VCCB, 59 DBGTX, 60 VCC +3.3V, 61 TX-, 62 AVCC, 63 TX+, 64 EY, 65 NC, 66 EG, 67 RX-, 68 AGND, 69 RX+, 70 AGND, 71 GND, 72 VCC W+3.3V, 73 GPIO49, 74 NC, 75 GPIO50, 76 NC, 77 GPIO51, 78 NC, 79 GPIO52, 80 GPIO53

## ESP32-DEVKITC-32D
designator U?
WiFi Development Tools (802.11) ESP32 General Development Kit, ESP32-WROOM-32D on the board; MF: Espressif Systems; MP: ESP32-DEVKITC-32D; Check_prices: https://www.snapeda.com/parts/ESP32-DEVKITC-32D/Espressif+Systems/view-part/?ref=eda; Purchase-URL: https://pricing.snapeda.com/search/part/ESP32-DEVKITC-32D/?ref=eda; Value: *; Price: None; SnapEDA_Link: https://www.snapeda.com/parts/ESP32-DEVKITC-32D/Espressif+Systems/view-part/?ref=snap; Availability: In Stock; Package: None
footprint MODULE_ESP32-DEVKITC-32D
pins: J2-1 3V3 (power), J2-2 EN (in), J2-3 SENSOR_VP (in), J2-4 SENSOR_VN (in), J2-5 IO34 (io), J2-6 IO35 (io), J2-7 IO32 (io), J2-8 IO33 (io), J2-9 IO25 (io), J2-10 IO26 (io), J2-11 IO27 (io), J2-12 IO14 (io), J2-13 IO12 (io), J2-14 GND1 (power), J2-15 IO13 (io), J2-16 SD2 (io), J2-17 SD3 (io), J2-18 CMD (io), J2-19 EXT_5V (power), J3-1 GND3 (power), J3-2 IO23 (io), J3-3 IO22 (io), J3-4 TXD0 (out), J3-5 RXD0 (in), J3-6 IO21 (io), J3-7 GND2 (power), J3-8 IO19 (io), J3-9 IO18 (io), J3-10 IO5 (io), J3-11 IO17 (io), J3-12 IO16 (io), J3-13 IO4 (io), J3-14 IO0 (io), J3-15 IO2 (io), J3-16 IO15 (io), J3-17 SD1 (io), J3-18 SD0 (io), J3-19 CLK (in)

## FAN
designator J?, comment 171825-3  (value not drawn)
Connector Header Through Hole 3 position 0.098" (2.50mm); ComponentLink1Description: CONN HEADER VERT 3POS 2.5MM; ComponentLink1URL: https://www.digikey.com/en/products/detail/te-connectivity-amp-connectors/171825-3/2055899; Link: https://www.digikey.com/en/products/detail/te-connectivity-amp-connectors/171825-3/2055899; Digi_Key_Part_Number: 171825-3; Price: 0,26
footprint TE_171825-3 -fan
part A pins: 7, 8, 9

## FDV301N
designator Q?  Supplier Part Number 1: FDV301NCT-ND
N-Channel 25V 220mA (Ta) 350mW (Ta) Surface Mount SOT-23; MP: FDV301N; MF: ON Semiconductor; Price: None; SnapEDA_Link: https://www.snapeda.com/parts/FDV301N/ON%20Semiconductor/view-part/210/?ref=snap; Availability: Unavailable; Value: *; Package: TO-236 ON Semiconductor; Supplier 1: Digi-Key
footprint SOT-23
pins: P$1 G, P$2 S, P$3 D

## Fuse 2
designator F?  Supplier Part Number 1: F3781-ND
Fuse; Manufacturer: Littelfuse; Manufacturer Part Number: 01020071Z; Body Material: Brass; Material: Brass,Tin; Voltage Rating (AC): 250V; Current Rating: 15A; Number of Circuits: 1; Published: 8-Jun-2000; LatestRevisionDate: 17-Jul-2002; LatestRevisionNote: Re-released for DXP Platform.; PackageReference: PIN-W2/E2.8; Publisher: Altium Limited; PackageDescription: Thru-Hole; 2 Leads; Supplier 1: Digi-Key; Stock 1: 27692; Pricing 1: 1=0.22, 5=0.21, 10=0.202, 50=0.1798, 100=0.1674, 250=0.1488, 500=0.124, 1000=0.1178, 5000=0.093 (USD); Mount: PCB; Contact Plating: Tin; Contact Material: Brass; Package Quantity: 1000; Packaging: Bulk; Voltage Rating (DC): 250V; Termination: PC Pin; Fuse Current: 15A; Voltage Rating: 250V; Voltage: 250V; Orientation: Horizontal; Diameter: 6.35mm; Length: 7.11mm; Height: 10.67mm; Width: 7.87mm; Depth: 7.11mm; Lead Free: Lead Free; REACH SVHC: Unknown; ComponentLink1URL: http://www.farnell.com/datasheets/668552.pdf?src-supplier=Element14; ComponentLink1Description: http://www.farnell.com/datasheets/668552.pdf?src-supplier=Element14; ComponentLink2URL: http://uk.rs-online.com/webdocs/128f/0900766b8128f6e8.pdf?src-supplier=RSComponents; ComponentLink2Description: http://uk.rs-online.com/webdocs/128f/0900766b8128f6e8.pdf?src-supplier=RSComponents; ComponentLink3URL: https://www.littelfuse.com/~/media/electronics/datasheets/fuse_clips/littelfuse_fuse_clip_102_122_datasheet.pdf.pdf?src-supplier=Digi-Key; ComponentLink3Description: https://www.littelfuse.com/~/media/electronics/datasheets/fuse_clips/littelfuse_fuse_clip_102_122_datasheet.pdf.pdf?src-supplier=Digi-Key; ComponentLink4URL: https://www.verical.com/server-webapp/html/getDatasheet?partID=336939&src-supplier=Verical; ComponentLink4Description: https://www.verical.com/server-webapp/html/getDatasheet?partID=336939&src-supplier=Verical; ComponentLink5URL: http://www.farnell.com/datasheets/1480080.pdf?src-supplier=Element14; ComponentLink5Description: http://www.farnell.com/datasheets/1480080.pdf?src-supplier=Element14; ComponentLink6URL: https://www.distrelec.biz/Web/Downloads/_t/ds/102-series_eng_tds.pdf?mime=application%2Fpdf&src-supplier=Distrelec; ComponentLink6Description: https://www.distrelec.biz/Web/Downloads/_t/ds/102-series_eng_tds.pdf?mime=application%2Fpdf&src-supplier=Distrelec
simulation model FUSE (Spice Subcircuit)
footprint Fuse
pins: 1, 2

## GDT_2030-42T-SM-RPLF
designator GDT?, comment 2030-42T-SM-RPLF  (value not drawn)
Gas Discharge Tube 360 V 4000A (4kA) 3 Pole Surface Mount; Digi_Key_Part_Number: 2030-42T-SM-RPLFCT-ND; ComponentLink1Description: GDT 360V 4KA 3 POLE SMD; ComponentLink1URL: https://www.digikey.com/es/products/detail/2030-42T-SM-RPLF/2030-42T-SM-RPLFDKR-ND/3481471?utm_campaign=buynow&utm_medium=aggregator&curr=usd&utm_source=octopart; Link: https://www.digikey.com/es/products/detail/2030-42T-SM-RPLF/2030-42T-SM-RPLFDKR-ND/3481471?utm_campaign=buynow&utm_medium=aggregator&curr=usd&utm_source=octopart; Value: 2030-42T-SM-RPLF; Price: 3,15; LCSC Part: C3660118; Mouser Part: 652-2030-42T-SM-RPLF; Price JLCPCB: 2,99
footprint 2030_42T_SM_BRN
pins: 1, 2, 3

## GDT_2031-23T-SMLF
designator D?, comment value 2031-23T-SMLF  (hidden comment: 2031-23T-SMLF-ND)
Supresores de tubos de descarga de gas 185 V 1000A (1kA) 2 polos Montaje en superficie; Link: https://www.digikey.com/es/products/detail/bourns-inc/2031-23T-SMLF/2499422?s=N4IgTCBcDa4AwGYCMBaMCAqKDKBZAMgGIoByAIiALoC%2BQA; ComponentLink1Description: GDT 185V 1KA 2 POLE SMD; ComponentLink1URL: https://www.digikey.com/es/products/detail/bourns-inc/2031-23T-SMLF/2499422?s=N4IgTCBcDa4AwGYCMBaMCAqKDKBZAMgGIoByAIiALoC%2BQA; Digi_Key_Part_Number: 2031-23T-SMLF-ND; Price: 1,5
footprint MOV_B88069X1520T352
pins: 1, 2

## Header 2
designator P?, comment 0010321021
Connector Header Through Hole 2 position 0.200" (5.08mm); Link: https://www.digikey.com/en/products/detail/molex/0010321021/403254?s=N4IgTCBcDaIIwAYC0BmMTFjiAugXyA; Digi_Key_Part_Number: 0010321021; Price: 0,57; Value: 0010321021
footprint HDR1X2 (Connector; Header; 2 Position)
pins: 1, 2

## Header 2X2_hembra
designator P?, comment S7070-ND  (value not drawn)
He4 Posiciones Cabecera Conector 0.100" (2.54mm) Orificio pasante Estañoader, 2-Pin, Dual row; ComponentLink1Description: CONN HDR 4POS 0.1 TIN PCB; ComponentLink1URL: https://www.digikey.com/es/products/detail/sullins-connector-solutions/PPTC022LFBN-RC/810209; Link: https://www.digikey.com/es/products/detail/sullins-connector-solutions/PPTC022LFBN-RC/810209; Digi_Key_Part_Number: S7070-ND; Value: S7070-ND; Price: 0,50; LCSC Part: C239342; Mouser Part: *; Price JLCPCB: 0,07
signal-integrity model Connector
footprint HDR2X2 (Connector; Header; 2x2 Position)
pins: 1, 2, 3, 4

## HEADER 2X2_man
designator J?, comment SAM1114-02-ND  (value not drawn)
Connector Header Through Hole 4 position 0.100 (2.54mm); Value: TD-102-T-A; ComponentLink1Description: TD-102-T-A; ComponentLink1URL: https://www.digikey.com/en/products/detail/samtec-inc/TD-102-T-A/1105556; Link: https://www.digikey.com/en/products/detail/samtec-inc/TD-102-T-A/1105556; Digi_Key_Part_Number: SAM1114-02-ND; Price: 1,06; LCSC Part: C225517; Mouser Part: *; Price JLCPCB: 0,07
footprint SAMTEC_TD-102-X-A
pins: 01, 02, 03, 04

## Header 3
designator J?, comment 171825-3
Connector Header Through Hole 3 position 0.098" (2.50mm); ComponentLink1Description: CONN HEADER VERT 3POS 2.5MM; ComponentLink1URL: https://www.digikey.com/en/products/detail/te-connectivity-amp-connectors/171825-3/2055899; Link: https://www.digikey.com/en/products/detail/te-connectivity-amp-connectors/171825-3/2055899; Digi_Key_Part_Number: 171825-3; Price: 0,26; Value: 171825-3
footprint TE_171825-3
pins: 1, 2, 3

## Header 3 2.00mm
designator J?, comment H3894-ND
Connector Header Through Hole, Right Angle 3 position 0.079" (2.00mm); MP: 2-292250-3; Package: None; Price: None; Value: *; Availability: Unavailable; ComponentLink1Description: CONN HEADER R/A 3POS 2MM; ComponentLink1URL: https://www.digikey.com/en/products/detail/hirose-electric-co-ltd/DF3A-3P-2DS/560460; Digi_Key_Part_Number: H3894-ND; Link: https://www.digikey.com/en/products/detail/hirose-electric-co-ltd/DF3A-3P-2DS/560460
footprint TE_2-292250-3
pins: 1, 2, 3

## HEADER 4
designator J?, comment 171825-4
Connector Header Through Hole 4 position 0.098" (2.50mm); ComponentLink1Description: CONN HEADER VERT 4POS 2.5MM; ComponentLink1URL: https://www.digikey.com/en/products/detail/te-connectivity-amp-connectors/171825-4/2135511; Link: https://www.digikey.com/en/products/detail/te-connectivity-amp-connectors/171825-4/2135511; Digi_Key_Part_Number: 171825-4; Price: 0,28; Value: 171825-4
footprint CONN_GP904
pins: 1, 2, 3, 4

## HEADER 4_2mm
designator J?, comment DF3A-4P-2DS
Cabezal de conector Orificio pasante, ángulo recto 4 posiciones 0.079" (2.00mm); Digi_Key_Part_Number: H3895-ND; ComponentLink1Description: CONN HEADER R/A 4POS 2MM; ComponentLink1URL: https://www.digikey.com/es/products/detail/hirose-electric-co-ltd/DF3A-4P-2DS/560461; Link: https://www.digikey.com/es/products/detail/hirose-electric-co-ltd/DF3A-4P-2DS/560461; Price JLCPCB: 0.12; Mouser Part: *; LCSC Part: C194925; Price: 0,19; Value: DF3A-4P-2DS
footprint SHDRRA4W60P0X200_1X4_1000X720X530P
pins: 1, 2, 3, 4

## Header 5X2_hembra
designator P?, comment PPTC052LFBN-RC  (value not drawn)
10 Posiciones Cabecera Conector 0.100" (2.54mm) Orificio pasante Estaño; ComponentLink1Description: CONN HDR 10POS 0.1 TIN PCB; ComponentLink1URL: https://www.digikey.com/es/products/detail/PPTC052LFBN-RC/S6105-ND/807243?utm_campaign=buynow&utm_medium=aggregator&curr=usd&utm_source=octopart; Link: https://www.digikey.com/es/products/detail/PPTC052LFBN-RC/S6105-ND/807243?utm_campaign=buynow&utm_medium=aggregator&curr=usd&utm_source=octopart; Digi-Key_Part_Number: S6105-ND; LCSC Part: C22373910; Mouser Part: *; Price JLCPCB: 0,11; Value: PPTC052LFBN-RC; Price: 0,60
signal-integrity model Connector
footprint HDR2X5 (Connector; Header; 5x2 Position)
pins: 1, 2, 3, 4, 5, 6, 7, 8, 9, 10

## Header 5X2_man
designator P?, comment TD-105-T-A  (value not drawn)
10 Posiciones Cabecera Conector Poste Estaño; Link: https://www.digikey.com/es/products/detail/samtec-inc/TD-105-T-A/1105553; Digi-Key_Part_Number: SAM1114-05-ND; Value: TD-105-T-A; Price: 2,15; LCSC Part: C32713278; Mouser Part: *; Price JLCPCB: 0,06; ComponentLink1Description: CONN HEADER VERT 10POS 2.54MM; ComponentLink1URL: https://www.digikey.com/es/products/detail/samtec-inc/TD-105-T-A/1105553
signal-integrity model Connector
footprint HDR2X5 (Connector; Header; 5x2 Position)
pins: 1, 2, 3, 4, 5, 6, 7, 8, 9, 10

## Header 5X2_smd
designator P?, comment GRPB052VWQS-RC  (value not drawn)
Cabezal de conector Montaje en superficie 10 posiciones 0.050" (1.27mm); ComponentLink1Description: GRPB052VWQS-RC; ComponentLink1URL: https://www.digikey.com/es/products/detail/sullins-connector-solutions/GRPB052VWQS-RC/1786414; ComponentLink2Description: CONN HEADER SMD 10POS 1.27MM; ComponentLink2URL: https://www.digikey.com/es/products/detail/GRPB052VWQS-RC/S9012E-05-ND/1786414?utm_campaign=buynow&utm_medium=aggregator&curr=usd&utm_source=octopart; Link: https://www.digikey.com/es/products/detail/GRPB052VWQS-RC/S9012E-05-ND/1786414?utm_campaign=buynow&utm_medium=aggregator&curr=usd&utm_source=octopart; Digi-Key_Part_Number: S9012E-05-ND; Value: GRPB052VWQS-RC; Price: 0,74; LCSC Part: C4943297; Mouser Part: *; Price JLCPCB: 0,08
signal-integrity model Connector
footprint IDC(SMD)-2X5(1.27MM)
pins: 1, 2, 3, 4, 5, 6, 7, 8, 9, 10

## Header 6
designator P?  Supplier Part Number 1: 455-2271-ND
Cabezal de conector Orificio pasante 6 posiciones 0.098" (2.50mm); Manufacturer: JST; Manufacturer Part Number: B6BXHA(LF)(SN); Contact Resistance: 20mR; Current Rating: 3A; Voltage Rating (AC): 250V; Number of Positions: 6; Insulation Resistance: 1GR; Connector Type: Male Pin; Wire/Cable Gauge: 22AWG; Pitch: 2.5mm; LatestRevisionDate: 17-Jul-2002; LatestRevisionNote: Re-released for DXP Platform.; Publisher: Altium Limited; Supplier 1: Digi-Key; Stock 1: 28709; Pricing 1: 1=0.27, 10=0.258, 100=0.1808, 500=0.15494, 1000=0.12912, 5000=0.11068, 10000=0.1033 (USD); Mount: Through Hole; Contact Plating: Tin,Lead,Copper; Contact Material: Brass; Color: Natural; Housing Color: White; Housing Material: Polyamide; Min Operating Temperature: -25°C; Max Operating Temperature: 85°C; Package Quantity: 500; Packaging: Bulk; Termination: Press-Fit; Number of Rows: 1; Voltage Rating: 250V; Max Current Rating: 3A; Number of Contacts: 6; Max Voltage Rating (AC): 250V; Max Voltage Rating (DC): 250V; Orientation: Straight; Length: 17.4mm; Depth: 5.75mm; Lead Pitch: 2.5mm; REACH SVHC: No SVHC; Lead Free: Lead Free; ComponentLink1URL: https://www.verical.com/server-webapp/html/getDatasheet?partID=424647&src-supplier=Verical; ComponentLink1Description: https://www.verical.com/server-webapp/html/getDatasheet?partID=424647&src-supplier=Verical; ComponentLink2URL: http://www.rapidonline.com/pdf/523653.pdf?src-supplier=Rapid+Electronics; ComponentLink2Description: http://www.rapidonline.com/pdf/523653.pdf?src-supplier=Rapid+Electronics; ComponentLink3URL: https://www.verical.com/server-webapp/html/getDatasheet?partID=641012&src-supplier=Verical; ComponentLink3Description: https://www.verical.com/server-webapp/html/getDatasheet?partID=641012&src-supplier=Verical; ComponentLink4URL: http://www1.futureelectronics.com/doc/JST/B6B-XH-A(LF)(SN).pdf?src-supplier=Future+Electronics; ComponentLink4Description: http://www1.futureelectronics.com/doc/JST/B6B-XH-A(LF)(SN).pdf?src-supplier=Future+Electronics; ComponentLink5URL: http://www.jst-mfg.com/product/pdf/eng/eXH.pdf?src-supplier=Digi-Key; ComponentLink5Description: http://www.jst-mfg.com/product/pdf/eng/eXH.pdf?src-supplier=Digi-Key; Digi_Key_Part_Number: 455-2271-ND; Link: https://www.digikey.com/es/products/detail/B6B-XH-A(LF)(SN)/455-2271-ND/1000381?utm_campaign=buynow&utm_medium=aggregator&curr=usd&utm_source=octopart; ComponentLink6Description: CONN HEADER VERT 6POS 2.5MM; ComponentLink6URL: https://www.digikey.com/es/products/detail/B6B-XH-A(LF)(SN)/455-2271-ND/1000381?utm_campaign=buynow&utm_medium=aggregator&curr=usd&utm_source=octopart; ComponentLink7Description: CONN HEADER VERT 6POS 2.5MM; ComponentLink7URL: https://www.digikey.com/es/products/detail/jst-sales-america-inc/B6B-XH-A-LF-SN/1000381
footprint HDR1X6 (Connector; Header; 6 Position)
pins: 1, 2, 3, 4, 5, 6

## Header 6_2mm
designator P?, comment DF3A-6P-2DS
Cabezal de conector Orificio pasante 6 posiciones 0.098" (2.50mm); Digi_Key_Part_Number: H3897-ND; Link: https://www.digikey.com/es/products/detail/hirose-electric-co-ltd/DF3A-6P-2DS/560463; ComponentLink1Description: CONN HEADER R/A 6POS 2MM; ComponentLink1URL: https://www.digikey.com/es/products/detail/hirose-electric-co-ltd/DF3A-6P-2DS/560463; Price: 0,26; LCSC Part: C506720; Mouser Part: *; Price JLCPCB: 0,16; Value: DF3A-6P-2DS
footprint CON6_1X6_R_DF3_HIR
pins: 1, 2, 3, 4, 5, 6

## Header 6X2H
designator P?
Header, 6-Pin, Dual row, Right Angle; LatestRevisionDate: 17-Jul-2002; LatestRevisionNote: Re-released for DXP Platform.; Publisher: Altium Limited
footprint HDR2X6_CEN (Connector; Header; 6x2 Position)
pins: 1, 2, 3, 4, 5, 6, 7, 8, 9, 10, 11, 12

## Header 7X2
designator P?
Header, 7-Pin, Dual row; LatestRevisionDate: 17-Jul-2002; LatestRevisionNote: Re-released for DXP Platform.; Publisher: Altium Limited
signal-integrity model Connector
footprint HDR2X7 (Connector; Header; 7x2 Position)
pins: 1, 2, 3, 4, 5, 6, 7, 8, 9, 10, 11, 12, 13, 14

## HEADER 8X2
designator J?
footprint DISPLAY_BL
pins: 1, 2, 3, 4, 5, 6, 7, 8, 9, 10, 11, 12, 13, 14, 15, 16

## Header 9X2
designator P?
Header, 9-Pin, Dual row; LatestRevisionDate: 17-Jul-2002; LatestRevisionNote: Re-released for DXP Platform.; Publisher: Altium Limited
footprint IDC-2X9
pins: 1, 2, 3, 4, 5, 6, 7, 8, 9, 10, 11, 12, 13, 14, 15, 16, 17, 18

## Header 10
designator P?
10 Position Header Connector 0.079" (2.00mm) Through Hole Gold; Digi_Key_Part_Number: S5751-10-ND; LatestRevisionDate: 17-Jul-2002; LatestRevisionNote: Re-released for DXP Platform.; Publisher: Altium Limited; Link: https://www.digikey.com/en/products/detail/sullins-connector-solutions/NPPN101BFCN-RC/804812; ComponentLink1Description: CONN HDR 10POS 0.079 GOLD PCB; ComponentLink1URL: https://www.digikey.com/es/products/detail/sullins-connector-solutions/NPPN101BFCN-RC/804812?s=N4IgTCBcDaIMoFcA2SCWA7AzgAgMIHt10BTAYwBd8AnbAOQAV7aBGABmYCEAxXWgWgBKuEAF0AvkA
signal-integrity model Connector
footprint RHDR10W55P0X200_1X10_2050X240X440P
pins: 1, 2, 3, 4, 5, 6, 7, 8, 9, 10

## Header 15X2
designator P?, comment PPPC152LFBN-RC
30 Position Header Connector 0.100" (2.54mm) Through Hole GoldCONN HDR 30POS 0.1 GOLD PCB; ComponentLink1Description: CONN HDR 30POS 0.1 GOLD PCB; ComponentLink1URL: https://www.digikey.com/es/products/detail/PPPC152LFBN-RC/S7118-ND/810254?utm_campaign=buynow&utm_medium=aggregator&curr=usd&utm_source=octopart; Digi-Key_Part_Number: S7118-ND; Link: https://www.digikey.com/es/products/detail/PPPC152LFBN-RC/S7118-ND/810254?utm_campaign=buynow&utm_medium=aggregator&curr=usd&utm_source=octopart; Price: 2,28; Value: PPPC152LFBN-RC
footprint HDR2X15 (Connector; Header; 15x2 Position)
signal-integrity model Connector
pins: 1, 2, 3, 4, 5, 6, 7, 8, 9, 10, 11, 12, 13, 14, 15, 16, 17, 18, 19, 20, 21, 22, 23, 24, 25, 26, 27, 28, 29, 30

## HEADER 16
designator J?
pins: 1, 2, 3, 4, 5, 6, 7, 8, 9, 10, 11, 12, 13, 14, 15, 16

## Header 20X2
designator P?, comment S6104-ND
40 Posiciones Cabecera Conector 0.100" (2.54mm) Orificio pasante Estaño; ComponentLink1Description: CONN HDR 40POS 0.1 TIN PCB; ComponentLink1URL: https://www.digikey.com/es/products/detail/sullins-connector-solutions/PPTC202LFBN-RC/807240; Digi_Key_Part_Number: S6104-ND; Link: https://www.digikey.com/es/products/detail/sullins-connector-solutions/PPTC202LFBN-RC/807240; Price: 2,70; Value: S6104-ND
signal-integrity model Connector
footprint HDR2X20 (Connector; Header; 20x2 Position)
pins: 1, 2, 3, 4, 5, 6, 7, 8, 9, 10, 11, 12, 13, 14, 15, 16, 17, 18, 19, 20, 21, 22, 23, 24, 25, 26, 27, 28, 29, 30, 31, 32, 33, 34, 35, 36, 37, 38, 39, 40

## Header-2
designator J?
MP: 3-647295-2; Package: None; Price: None; Value: *; Availability: Unavailable
footprint header-2
pins: 1, 2

## INDUCTOR  POWER LINE_100/2A_0603
designator L?, comment Supplier 1: Digi-Key  Manufacturer: Eaton Cooper  Manufacturer Part Number: DR1030-101-R  Supplier Part Number 1: 553-BBUP00160808121Y00DKR-ND  (hidden comment: 553-BBUP00160808121Y00CT-ND)
100 Ohms @ 100 MHz 1 Línea de alimentación Perlas de ferrita y astillas 0603 (1608 métrico) 2A 35mOhm; Core Material: Ferrite; Current Rating: 860mA; Saturation Current: 1.05A; Tolerance: 30%; Shielding: Shielded; Inductance: 100uH; DC Resistance (DCR): 450mR; Test Frequency: 100kHz; Self Resonant Frequency: 1MHz; Mount: Surface Mount; Case/Package: Nonstandard; Number of Pins: 2; Weight: 0.17637oz; Min Operating Temperature: -40°C; Max Operating Temperature: 125°C; Package Quantity: 1000; Packaging: Tape and Reel; Inductance Tolerance: 30%; Composition: Wirewound; Max DC Current: 1.05A; Termination: SMD/SMT; DC Current: 860mA; Military Standard: Not; RMS Current (Irms): 860mA; Length: 10.5mm; Height: 3mm; Width: 0.405inch; Height - Seated (Max): 0.118inch; Depth: 10.3mm; Radiation Hardening: No; REACH SVHC: Unknown; Lead Free: Lead Free; ComponentLink1Description: Z0603C121APMST; ComponentLink1URL: https://www.digikey.com/es/products/detail/kemet/Z0603C121APMST/13146939; Digi_Key_Part_Number: 553-BBUP00160808121Y00CT-ND; Link: https://www.digikey.com/en/products/detail/pulse-electronics/BBUP00160808121Y00/10508561?s=N4IgTCBcDaIKxwMwFoBCqCqAFADDgjAGw4Acp%2BY%2BAmngMIAqyAcgCIgC6AvkA
footprint IND-0603 (Inductor 0603(1608))
pins: 1, 2

## INDUCTOR POWER LINE 120 /3A_0603
designator L?, comment BLM18BA121SH1D-ND  (value not drawn)
120 Ohms 1 Ferrite Bead 0603 (1608 Metric) 3A 30mOhm; Value: BLM18; Supplier 1: Digi-Key; Supplier Part Number 1: 399-9608-1-ND; Digi_Key_Part_Number: BLM18BA121SH1D-ND; Link: https://www.digikey.com/en/products/detail/murata-electronics/blm18ba121sh1d/2587990; ComponentLink1Description: FERRITE BEAD 120 OHM 0603 1LN; ComponentLink1URL: https://www.digikey.com/es/products/detail/pulse-electronics/BBUP00160808121Y00/10508561?s=N4IgTCBcDaIKxwMwFoBCqCqAFADDgjAGw4Acp%2BY%2BAmngMIAqyAcgCIgC6AvkA
footprint SM/C_0603
pins: 1, 2

## INDUCTOR_10UH_670mA
designator L?, comment value 10uH  (hidden comment: CDRH3D14/HPNP-100NC)
10 µH Shielded Inductor 670 mA 440mOhm Max Nonstandard; Digi_Key_Part_Number: 308-1969-1-ND; Link: https://www.digikey.com/en/products/detail/sumida-america-inc/CDRH3D14-HPNP-100NC/3946967?s=N4IgTCBcDaIMIBEBKAJAzAgjAFgPQoAUA5AgWkwAYKi4QBdAXyA; Price: 0,24; LCSC Part: C212279; Mouser Part: 81-DFE252012F-100MP2; Price JLCPCB: 0,44; ComponentLink1Description: FIXED IND 10UH 670MA 440MOHM SMD; ComponentLink1URL: https://www.digikey.com/en/products/detail/sumida-america-inc/CDRH3D14-HPNP-100NC/3946967?s=N4IgTCBcDaIMIBEBKAJAzAgjAFgPQoAUA5AgWkwAYKi4QBdAXyA
footprint CDRH3D14HPNP100NC
pins: 1, 2

## INDUCTOR_10UH_950mA
designator L?, comment value 10uH  (hidden comment: DFE252012F-100M=P2)
10 µH Shielded Drum Core, Wirewound Inductor 950 mA 480mOhm Max 1008 (2520 Metric) Flat Wire; Digi_Key_Part_Number: 490-13050-1-ND; Link: https://www.digikey.com/en/products/detail/murata-electronics/DFE252012F-100M-P2/5812586; Price: 0,24; LCSC Part: C5832376; ComponentLink1Description: FIXED IND 10UH 950MA 0.48OHM SMD; ComponentLink1URL: https://www.digikey.com/en/products/detail/murata-electronics/DFE252012F-100M-P2/5812586; Mouser Part: 81-DFE252012F-100MP2; Price JLCPCB: 0,03
pins: 1, 2

## INDUCTOR_15UH_2A
designator L?, comment value 15uH  (hidden comment: TYS5040150M-10)
15 µH Blindado Inductivo 2 A 86mOhm máx. No estándar; Digi_Key_Part_Number: 240-2712-1-ND; Link: https://www.digikey.com/es/products/detail/laird-signal-integrity-products/TYS5040150M-10/4733469; Price: 0,41; LCSC Part: C44888; ComponentLink1Description: FIXED IND 15UH 2A 86 MOHM SMD; ComponentLink1URL: https://www.digikey.com/es/products/detail/laird-signal-integrity-products/TYS5040150M-10/4733469; Price JLCPCB: 0,06
footprint INDPM5050X420N
pins: 1, 2